# EAGLE library part TLW-120-06-T-S (library SAMTEC-Txx_By_element14_Batch_1)
CONNECTOR HEADER, 20 WAY, 1ROW
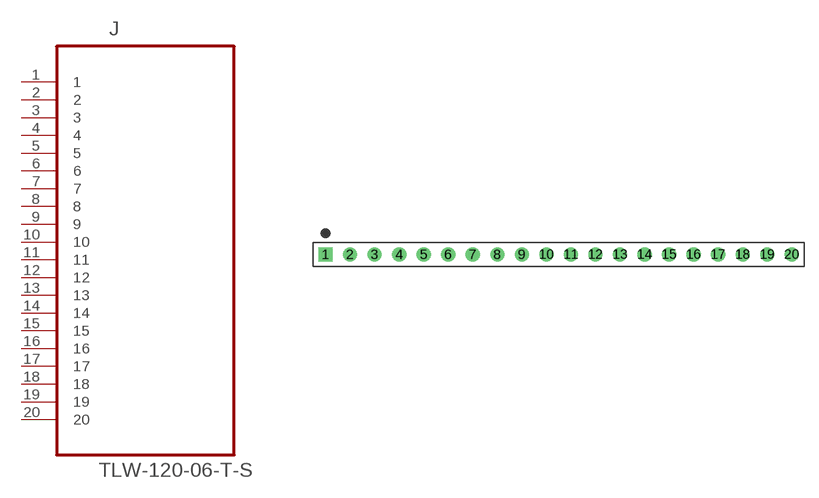
[diagram p258: symbol with the pads of SAMTEC_TLW-120-06-T-S; footprint SAMTEC_TLW-120-06-T-S]

Designator prefix J

## TLW-120-06-T-S (MPN: TLW-120-06-T-S; OC_FARNELL: -; OC_NEWARK: 12P0519; PACKAGE: CONN HEADER 20 POS .100 inch; SUPPLIER: SAMTEC)  [SAMTEC_TLW-120-06-T-S]
1  1  pas
2  2  pas
3  3  pas
4  4  pas
5  5  pas
6  6  pas
7  7  pas
8  8  pas
9  9  pas
10  10  pas
11  11  pas
12  12  pas
13  13  pas
14  14  pas
15  15  pas
16  16  pas
17  17  pas
18  18  pas
19  19  pas
20  20  pas

## Footprint SAMTEC_TLW-120-06-T-S (pad centres in mm)
drill 0.965 square: 1 -48.26,0
drill 0.965: 2 -45.72,0; 3 -43.18,0; 4 -40.64,0; 5 -38.1,0; 6 -35.56,0; 7 -33.02,0; 8 -30.48,0; 9 -27.94,0; 10 -25.4,0; 11 -22.86,0; 12 -20.32,0; 13 -17.78,0; 14 -15.24,0; 15 -12.7,0; 16 -10.16,0; 17 -7.62,0; 18 -5.08,0; 19 -2.54,0; 20 0,0